# EAGLE library part IDC10POS (library CC2530_PCB_TL - Backup Copy - DO NOT EDIT)
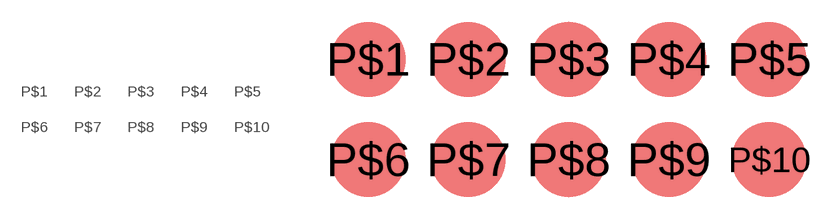
[diagram p6: symbol with the pads of IDC10POS; footprint IDC10POS]

Designator prefix -

## IDC10POS  [IDC10POS]
P$1  P$1
P$2  P$2
P$3  P$3
P$4  P$4
P$5  P$5
P$6  P$6
P$7  P$7
P$8  P$8
P$9  P$9
P$10  P$10

## Footprint IDC10POS (pad centres in mm)
smd 1.905 x 1.905: P$1 -5.08,1.27; P$2 -2.54,1.27; P$3 0,1.27; P$4 2.54,1.27; P$5 5.08,1.27; P$6 -5.08,-1.27; P$7 -2.54,-1.27; P$8 0,-1.27; P$9 2.54,-1.27; P$10 5.08,-1.27